# Altium schematic symbol library CY7C1371D.SchLib: 1 symbol
Pins are listed as number, name and electrical type; pins without a type are passive.

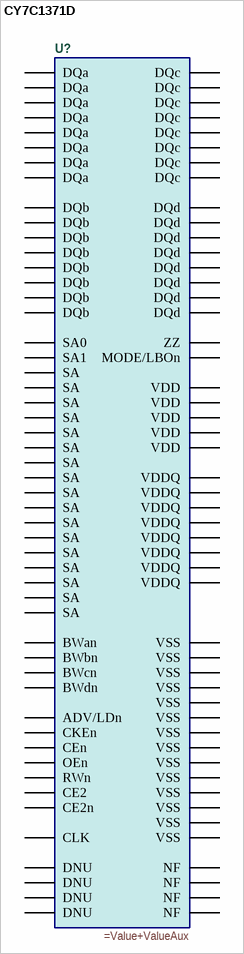
[diagram p0: symbol CY7C1371D]

## CY7C1371D
designator U?
=Description
pins: 1 NF, 2 DQc, 3 DQc, 4 VDDQ, 5 VSS, 6 DQc, 7 DQc, 8 DQc, 9 DQc, 10 VSS, 11 VDDQ, 12 DQc, 13 DQc, 14 VSS, 15 VDD, 16 VDD, 17 VSS, 18 DQd, 19 DQd, 20 VDDQ, 21 VSS, 22 DQd, 23 DQd, 24 DQd, 25 DQd, 26 VSS, 27 VDDQ, 28 DQd, 29 DQd, 30 NF, 31 MODE/LBOn, 32 SA, 33 SA, 34 SA, 35 SA, 36 SA1, 37 SA0, 38 DNU, 39 DNU, 40 VSS, 41 VDD, 42 DNU, 43 DNU, 44 SA, 45 SA, 46 SA, 47 SA, 48 SA, 49 SA, 50 SA, 51 NF, 52 DQa, 53 DQa, 54 VDDQ, 55 VSS, 56 DQa, 57 DQa, 58 DQa, 59 DQa, 60 VSS, 61 VDDQ, 62 DQa, 63 DQa, 64 ZZ, 65 VDD, 66 VSS, 67 VSS, 68 DQb, 69 DQb, 70 VDDQ, 71 VSS, 72 DQb, 73 DQb, 74 DQb, 75 DQb, 76 VSS, 77 VDDQ, 78 DQb, 79 DQb, 80 NF, 81 SA, 82 SA, 83 SA, 84 SA, 85 ADV/LDn, 86 OEn, 87 CKEn, 88 RWn, 89 CLK, 90 VSS, 91 VDD, 92 CE2n, 93 BWan, 94 BWbn, 95 BWcn, 96 BWdn, 97 CE2, 98 CEn, 99 SA, 100 SA